# EAGLE library part CON-52991-0508 (library m-pad-2.1)
Molex 52991-0508 50pin Board to Board connector with a pitch 0.5 mm
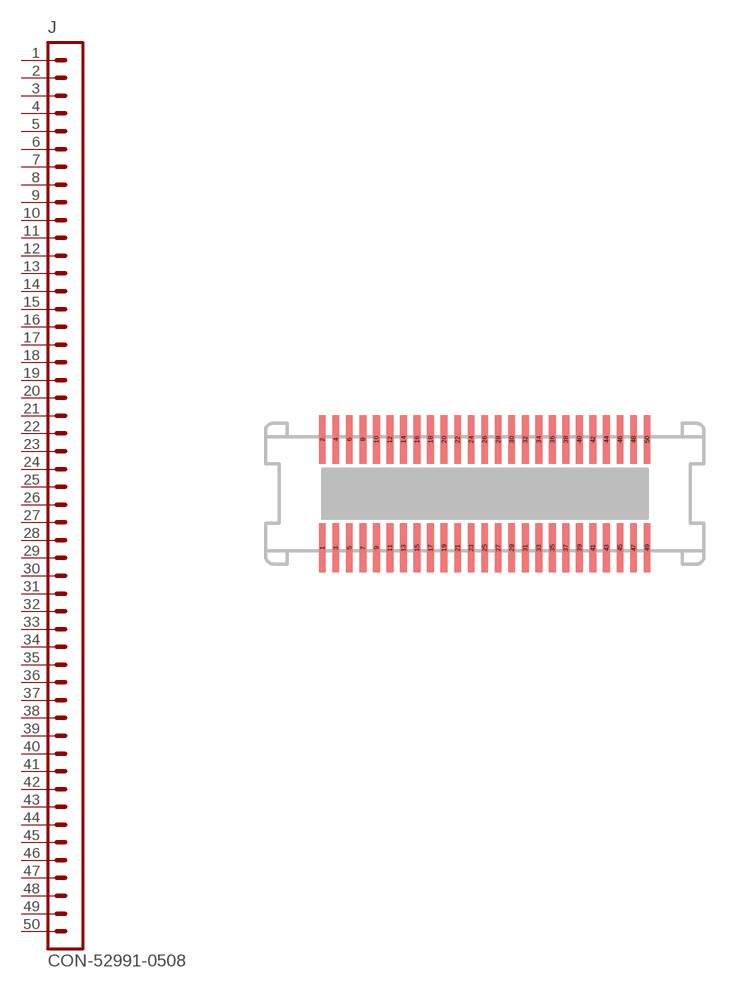
[diagram p171: symbol with the pads of 52991-0508; footprint 52991-0508]

Designator prefix J

## CON-52991-0508  [52991-0508]
1  1  pas
2  2  pas
3  3  pas
4  4  pas
5  5  pas
6  6  pas
7  7  pas
8  8  pas
9  9  pas
10  10  pas
11  11  pas
12  12  pas
13  13  pas
14  14  pas
15  15  pas
16  16  pas
17  17  pas
18  18  pas
19  19  pas
20  20  pas
21  21  pas
22  22  pas
23  23  pas
24  24  pas
25  25  pas
26  26  pas
27  27  pas
28  28  pas
29  29  pas
30  30  pas
31  31  pas
32  32  pas
33  33  pas
34  34  pas
35  35  pas
36  36  pas
37  37  pas
38  38  pas
39  39  pas
40  40  pas
41  41  pas
42  42  pas
43  43  pas
44  44  pas
45  45  pas
46  46  pas
47  47  pas
48  48  pas
49  49  pas
50  50  pas

## Footprint 52991-0508 (pad centres in mm)
Molex board to board connector
smd 0.25 x 1.8: 1 -6,-2; 2 -6,2; 3 -5.5,-2; 4 -5.5,2; 5 -5,-2; 6 -5,2; 7 -4.5,-2; 8 -4.5,2; 9 -4,-2; 10 -4,2; 11 -3.5,-2; 12 -3.5,2; 13 -3,-2; 14 -3,2; 15 -2.5,-2; 16 -2.5,2; 17 -2,-2; 18 -2,2; 19 -1.5,-2; 20 -1.5,2; 21 -1,-2; 22 -1,2; 23 -0.5,-2; 24 -0.5,2; 25 0,-2; 26 0,2; 27 0.5,-2; 28 0.5,2; 29 1,-2; 30 1,2; 31 1.5,-2; 32 1.5,2; 33 2,-2; 34 2,2; 35 2.5,-2; 36 2.5,2; 37 3,-2; 38 3,2; 39 3.5,-2; 40 3.5,2; 41 4,-2; 42 4,2; 43 4.5,-2; 44 4.5,2; 45 5,-2; 46 5,2; 47 5.5,-2; 48 5.5,2; 49 6,-2; 50 6,2